# Altium schematic symbol library KEA128.SchLib: 1 symbol
Pins are listed as number, name and electrical type; pins without a type are passive.

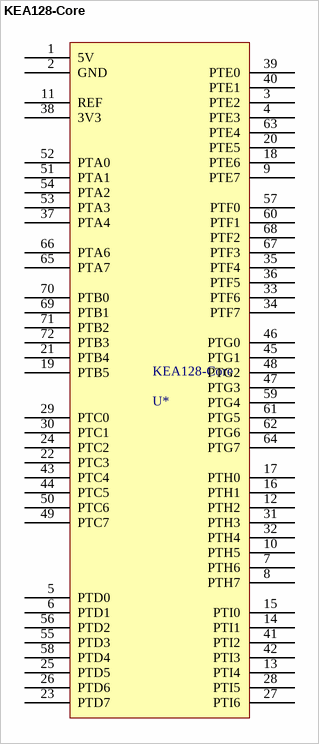
[diagram p0: symbol KEA128-Core]

## KEA128-Core
designator KEA128-Core, comment U*
footprint KEA128_CORE
pins: 1 5V, 2 GND, 3 PTE2, 4 PTE3, 5 PTD0, 6 PTD1, 7 PTH6, 8 PTH7, 9 PTE7, 10 PTH5, 11 REF, 12 PTH2, 13 PTI4, 14 PTI1, 15 PTI0, 16 PTH1, 17 PTH0, 18 PTE6, 19 PTB5, 20 PTE5, 21 PTB4, 22 PTC3, 23 PTD7, 24 PTC2, 25 PTD5, 26 PTD6, 27 PTI6, 28 PTI5, 29 PTC0, 30 PTC1, 31 PTH3, 32 PTH4, 33 PTF6, 34 PTF7, 35 PTF4, 36 PTF5, 37 PTA4, 38 3V3, 39 PTE0, 40 PTE1, 41 PTI2, 42 PTI3, 43 PTC4, 44 PTC5, 45 PTG1, 46 PTG0, 47 PTG3, 48 PTG2, 49 PTC7, 50 PTC6, 51 PTA1, 52 PTA0, 53 PTA3, 54 PTA2, 55 PTD3, 56 PTD2, 57 PTF0, 58 PTD4, 59 PTG4, 60 PTF1, 61 PTG5, 62 PTG6, 63 PTE4, 64 PTG7, 65 PTA7, 66 PTA6, 67 PTF3, 68 PTF2, 69 PTB1, 70 PTB0, 71 PTB2, 72 PTB3